# EAGLE library part ST3485EBDR (library ST_Microelctronics_By_element14_Batch_1)
RS-485/RS-422 transceiver
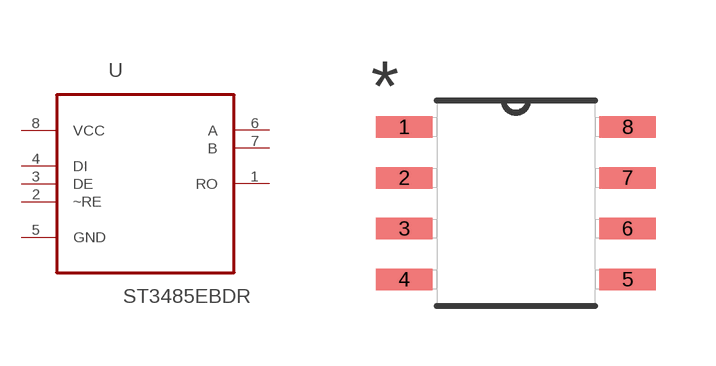
[diagram p303: symbol with the pads of SOIC127P600X175-8N; footprint SOIC127P600X175-8N]

Designator prefix U

## ST3485EBDR (MPN: ST3485EBDR; OC_FARNELL: -; OC_NEWARK: 89K1003; PACKAGE: SOIC-8; SUPPLIER: STMICROELECTRONICS)  [SOIC127P600X175-8N]
1  RO  in
2  ~RE  in
3  DE  in
4  DI  in
5  GND  pas
6  A  out
7  B  out
8  VCC  pwr

## Footprint SOIC127P600X175-8N (pad centres in mm)
smd 1.422 x 0.533: 1 -2.794,1.905; 2 -2.794,0.635; 3 -2.794,-0.635; 4 -2.794,-1.905; 5 2.794,-1.905; 6 2.794,-0.635; 7 2.794,0.635; 8 2.794,1.905